# Altium footprint library PCB_2.PcbLib: 21 footprints (part 2 of 2)
Each footprint in its own frame and in the unit in brackets; x right, y up, seen from the top. Pads: shape width x height; smd on the part's side, far side on the other; paste and mask are expansions set on the pad; w line width, h text height; cw(c..) or ccw(c..) is an arc to the next point about the centre after c.
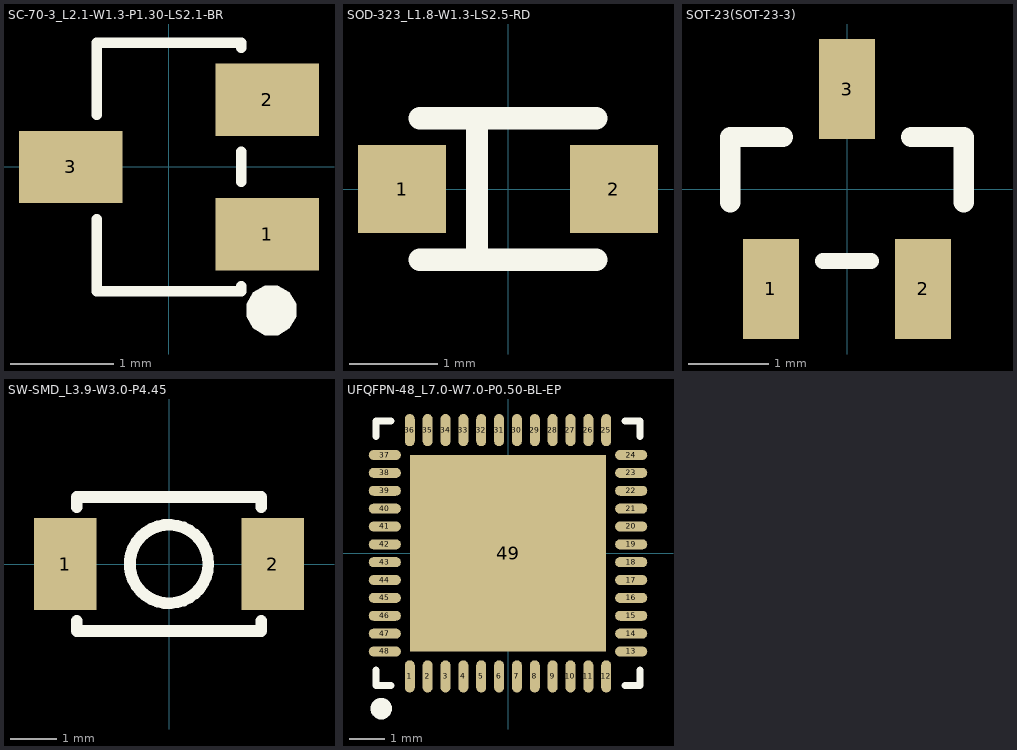
[diagram p1: the footprints below, top view; thin cyan lines are the x and y axes]

## SC-70-3_L2.1-W1.3-P1.30-LS2.1-BR [mm]
pads (3):
  rect 1x0.7 smd: 1(0.95,-0.65) 2(0.95,0.65) 3(-0.95,0)
Top Overlay:
  region: 0.991,-1.626 1.054,-1.625 1.165,-1.561 1.228,-1.45 1.228,-1.322 1.164,-1.212 1.053,-1.148 0.925,-1.148 0.815,-1.212 0.751,-1.322 0.75,-1.45 0.814,-1.561 0.924,-1.625 0.988,-1.626
  lines w0.1: -0.7,-0.504 -0.7,-1.2 0.68,-1.2 ; -0.7,0.504 -0.7,1.194 ; -0.7,1.2 0.7,1.2 0.7,1.154 ; 0.7,-1.2 0.7,-1.154 ; 0.7,-0.146 0.7,0.146

## SOD-323_L1.8-W1.3-LS2.5-RD [mm]
pads (2):
  rect 1x1 smd: 1(-1.2,0) 2(1.2,0)
Top Overlay:
  lines w0.254: -1,-0.8 1,-0.8 ; -1,0.8 1,0.8 ; -0.351,-0.8 -0.351,0.8

## SOT-23(SOT-23-3) [mm]
pads (3):
  rect 0.7x1.25 smd: 1(-0.95,-1.25) 2(0.95,-1.25) 3(0,1.25)
Top Overlay:
  lines w0.2: -0.3,-0.9 0.3,-0.9
  lines w0.254: -1.46,-0.165 -1.46,0.65 -0.8,0.65 ; 1.46,-0.165 1.46,0.65 ; 0.8,0.65 1.46,0.65 ; 0.8,0.65 1.46,0.65 ; 0.8,0.65 1.46,0.65

## SW-SMD_L3.9-W3.0-P4.45 [mm]
pads (2):
  rect 1.35x2 smd: 1(-2.25,0) 2(2.25,0)
Top Overlay:
  circle w0.254: c0,0 r0.85
  lines w0.254: -2,-1.231 -2,-1.45 2,-1.45 2,-1.231 ; -2,1.231 -2,1.45 2,1.45 2,1.231

## UFQFPN-48_L7.0-W7.0-P0.50-BL-EP [mm]
pads (49):
  oval 0.28x0.9 smd: 1(-2.751,-3.449) 2(-2.25,-3.449) 3(-1.75,-3.449) 4(-1.25,-3.449) 5(-0.749,-3.449) 6(-0.249,-3.449) 7(0.249,-3.449) 8(0.749,-3.449) 9(1.25,-3.449) 10(1.75,-3.449) 11(2.25,-3.449) 12(2.751,-3.449) 25(2.751,3.449) 26(2.25,3.449) 27(1.75,3.449) 28(1.25,3.449) 29(0.749,3.449) 30(0.249,3.449) 31(-0.249,3.449) 32(-0.749,3.449) 33(-1.25,3.449) 34(-1.75,3.449) 35(-2.25,3.449) 36(-2.751,3.449)
  oval 0.9x0.28 smd: 13(3.449,-2.751) 14(3.449,-2.25) 15(3.449,-1.75) 16(3.449,-1.25) 17(3.449,-0.749) 18(3.449,-0.249) 19(3.449,0.249) 20(3.449,0.749) 21(3.449,1.25) 22(3.449,1.75) 23(3.449,2.25) 24(3.449,2.751) 37(-3.449,2.751) 38(-3.449,2.25) 39(-3.449,1.75) 40(-3.449,1.25) 41(-3.449,0.749) 42(-3.449,0.249) 43(-3.449,-0.249) 44(-3.449,-0.749) 45(-3.449,-1.25) 46(-3.449,-1.75) 47(-3.449,-2.25) 48(-3.449,-2.751)
  rect 5.5x5.5 smd: 49(0,0)
Top Overlay:
  lines w0.2: -3.7,-3.275 -3.7,-3.7 -3.275,-3.7 ; -3.7,3.275 -3.7,3.7 -3.275,3.7 ; 3.275,-3.7 3.7,-3.7 3.7,-3.275 ; 3.275,3.7 3.7,3.7 3.7,3.275
  lines w0.3: -3.551,-4.201 ccw(c-3.55,-4.351) -3.548,-4.201